# EAGLE library part MAX485_TTL_TO_RS_485_MODULE (library Liu-Ford-ACP-AUX)
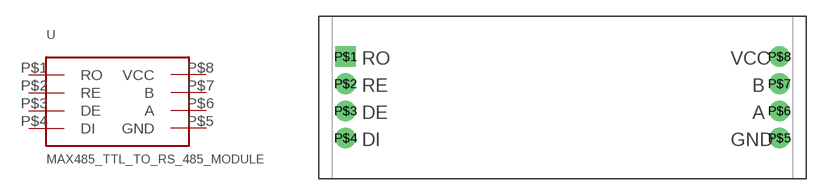
[diagram p1: symbol with the pads of MAX485_TTL_TO_RS_485_MODULE; footprint MAX485_TTL_TO_RS_485_MODULE]

Designator prefix U

## MAX485_TTL_TO_RS_485_MODULE  [MAX485_TTL_TO_RS_485_MODULE]
P$1  RO  out
P$2  RE
P$3  DE
P$4  DI  in
P$5  GND  pwr
P$6  A
P$7  B
P$8  VCC  pwr

## Footprint MAX485_TTL_TO_RS_485_MODULE (pad centres in mm)
drill 1.016 pad 1.93 square: P$1 -20.32,3.81
drill 1.016 pad 1.93: P$2 -20.32,1.27; P$3 -20.32,-1.27; P$4 -20.32,-3.81; P$5 20.32,-3.81; P$6 20.32,-1.27; P$7 20.32,1.27; P$8 20.32,3.81